# Altium integrated library TjsADLib.IntLib: 16 symbols
Pins are listed as number, name and electrical type; pins without a type are passive.

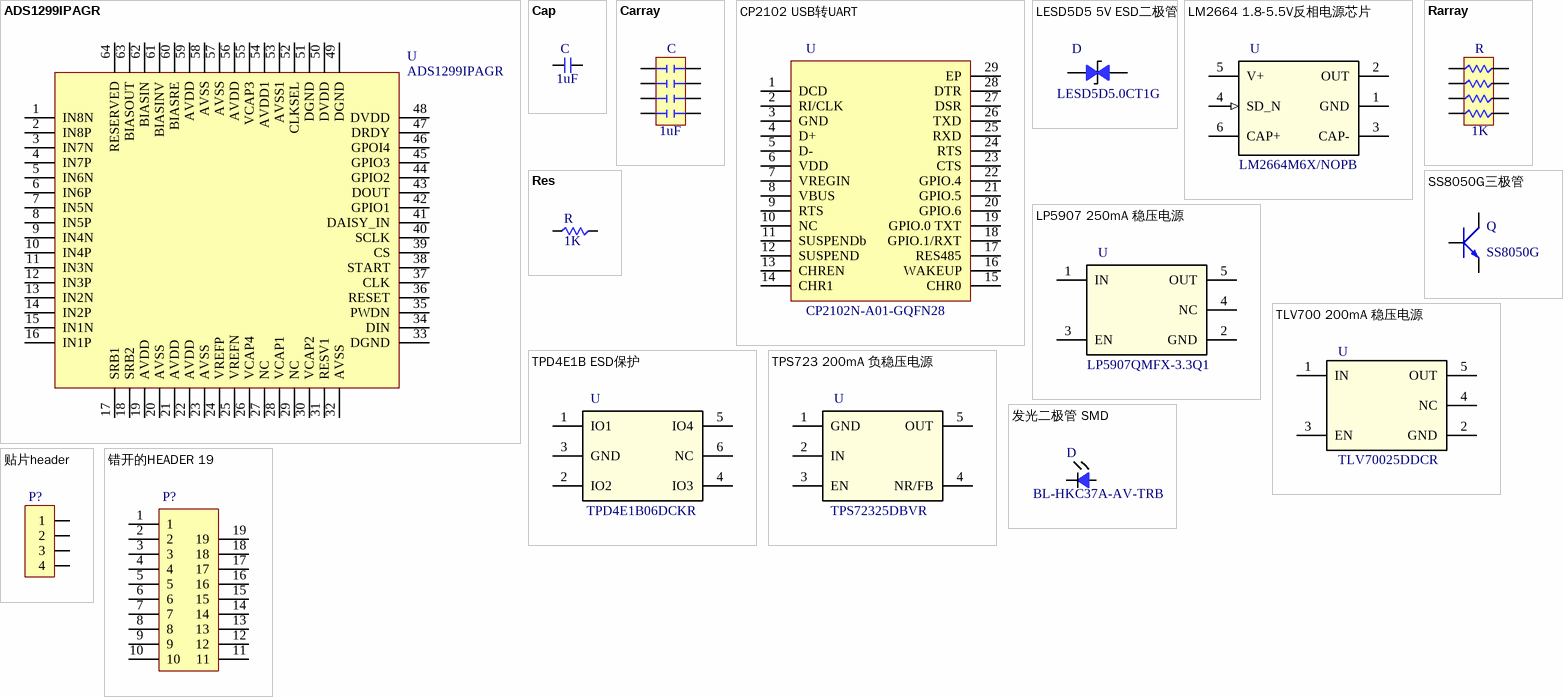
[diagram p0: symbols ADS1299IPAGR to 错开的HEADER 19]

## ADS1299IPAGR
designator U
8通道EEG芯片
footprint TQFP-64
pins: 1 IN8N, 2 IN8P, 3 IN7N, 4 IN7P, 5 IN6N, 6 IN6P, 7 IN5N, 8 IN5P, 9 IN4N, 10 IN4P, 11 IN3N, 12 IN3P, 13 IN2N, 14 IN2P, 15 IN1N, 16 IN1P, 17 SRB1, 18 SRB2, 19 AVDD, 20 AVSS, 21 AVDD, 22 AVDD, 23 AVSS, 24 VREFP, 25 VREFN, 26 VCAP4, 27 NC, 28 VCAP1, 29 NC, 30 VCAP2, 31 RESV1, 32 AVSS, 33 DGND, 34 DIN, 35 PWDN, 36 RESET, 37 CLK, 38 START, 39 CS, 40 SCLK, 41 DAISY_IN, 42 GPIO1, 43 DOUT, 44 GPIO2, 45 GPIO3, 46 GPOI4, 47 DRDY, 48 DVDD, 49 DGND, 50 DVDD, 51 DGND, 52 CLKSEL, 53 AVSS1, 54 AVDD1, 55 VCAP3, 56 AVDD, 57 AVSS, 58 AVSS, 59 AVDD, 60 BIASRE, 61 BIASINV, 62 BIASIN, 63 BIASOUT, 64 RESERVED

## Cap
designator C, comment 1uF
贴片电容
footprint C_0402
footprint C_0603
footprint C_0805
footprint C_1206
pins: 1, 2

## Carray
designator C, comment 1uF
排容
footprint C_0603_x4
pins: 1, 2, 3, 4, 5, 6, 7, 8

## CP2102 USB转UART
designator U, comment CP2102N-A01-GQFN28
USB转UART
footprint QFN28
pins: 1 DCD, 2 RI/CLK, 3 GND, 4 D+, 5 D-, 6 VDD, 7 VREGIN, 8 VBUS, 9 RTS, 10 NC, 11 SUSPENDb, 12 SUSPEND, 13 CHREN, 14 CHR1, 15 CHR0, 16 WAKEUP, 17 RES485, 18 GPIO.1/RXT, 19 GPIO.0 TXT, 20 GPIO.6, 21 GPIO.5, 22 GPIO.4, 23 CTS, 24 RTS, 25 RXD, 26 TXD, 27 DSR, 28 DTR, 29 EP

## LESD5D5 5V ESD二极管
designator D, comment LESD5D5.0CT1G
5V反向击穿 ESD保护
footprint SOD-523
pins: 1, 2

## LM2664 1.8-5.5V反相电源芯片
designator U, comment LM2664M6X/NOPB
40mA 1.8-5.5V反相电源
footprint SOT-23-6
pins: 1 GND (power), 2 OUT (power), 3 CAP- (power), 4 SD_N (in), 5 V+ (power), 6 CAP+ (power)

## LP5907 250mA 稳压电源
designator U, comment LP5907QMFX-3.3Q1
250mA
footprint SOT-23-5
pins: 1 IN (power), 2 GND (power), 3 EN (power), 4 NC (power), 5 OUT (power)

## Rarray
designator R, comment 1K
贴片排阻
footprint R_0603_x4
pins: 1, 2, 3, 4, 5, 6, 7, 8

## Res
designator R, comment 1K
贴片电阻
footprint R_0402
footprint R_0603
footprint R_0805
footprint R_1206
pins: 1, 2

## SS8050G三极管
designator Q, comment SS8050G
三极管
footprint SOT-23-3
pins: 1, 2, 3

## TLV700 200mA 稳压电源
designator U, comment TLV70025DDCR
200mA稳压电源
footprint SOT-23-5
pins: 1 IN (power), 2 GND (power), 3 EN (power), 4 NC (power), 5 OUT (power)

## TPD4E1B ESD保护
designator U, comment TPD4E1B06DCKR
4通道高速ESD保护
footprint SC70-6
pins: 1 IO1 (power), 2 IO2 (power), 3 GND (power), 4 IO3 (power), 5 IO4 (power), 6 NC (power)

## TPS723 200mA 负稳压电源
designator U, comment TPS72325DBVR
200mA 稳压电源
footprint SOT-23-5
pins: 1 GND (power), 2 IN (power), 3 EN (power), 4 NR/FB (power), 5 OUT (power)

## 发光二极管 SMD
designator D, comment BL-HKC37A-AV-TRB
蓝色发光二极管
footprint D-0402
footprint D_0603
pins: 1, 2

## 贴片header
designator P?, comment SMD Header  (value not drawn)
贴片式header
footprint SMD-HEADER_X4
pins: 1, 2, 3, 4

## 错开的HEADER 19
designator P?, comment CROSS-HEADER19  (value not drawn)
交错的header
footprint CROSS-HEADER19
pins: 1, 2, 3, 4, 5, 6, 7, 8, 9, 10, 11, 12, 13, 14, 15, 16, 17, 18, 19